# EAGLE library part DRV8825_H (library drv8825)
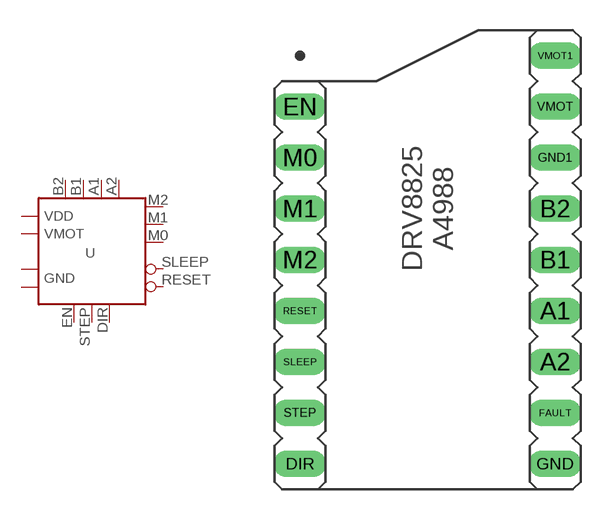
[diagram p0: symbol with the pads of DRV8825_H; footprint DRV8825_H]

Designator prefix -

## DRV8825_H  [DRV8825_H]
A1  A1
A2  A2
B1  B1
B2  B2
DIR  DIR  in
EN  EN  in
FAULT  VDD  pwr
GND  GND  pwr
GND1  GMOT  pwr
M0  M0  in
M1  M1  in
M2  M2  in
RESET  RESET
SLEEP  SLEEP
STEP  STEP  in
VMOT  VMOT  pwr
VMOT1  VMOT  pwr

## Footprint DRV8825_H (pad centres in mm)
drill 0.813 long: A1 6.35,-1.27; A2 6.35,-3.81; B1 6.35,1.27; B2 6.35,3.81; DIR -6.35,-8.89; EN -6.35,8.89; FAULT 6.35,-6.35; GND 6.35,-8.89; GND1 6.35,6.35; M0 -6.35,6.35; M1 -6.35,3.81; M2 -6.35,1.27; RESET -6.35,-1.27; SLEEP -6.35,-3.81; STEP -6.35,-6.35; VMOT 6.35,8.89; VMOT1 6.35,11.43